# EAGLE library part GRAYHILL-71-1POL-10POS (library ryans-common-components)
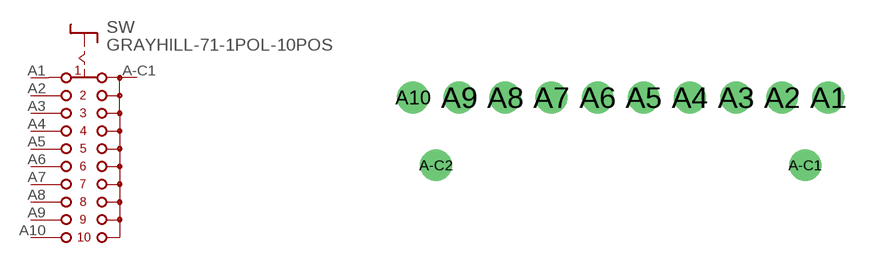
[diagram p11: symbol with the pads of GRAYHILL-71-36º; footprint GRAYHILL-71-36º]

Designator prefix SW

## GRAYHILL-71-1POL-10POS  [GRAYHILL-71-36º]
A1  1  pas
A2  2  pas
A3  3  pas
A4  4  pas
A5  5  pas
A6  6  pas
A7  7  pas
A8  8  pas
A9  9  pas
A10  10  pas
A-C1  S  pas

## Footprint GRAYHILL-71-36º (pad centres in mm)
drill 0.8: A1 8.572,0; A2 6.668,0; A3 4.763,0; A4 2.857,0; A5 0.953,0; A6 -0.953,0; A7 -2.857,0; A8 -4.763,0; A9 -6.668,0; A10 -8.572,0; A-C1 7.62,-2.794; A-C2 -7.62,-2.794